# EAGLE library part 74LCX16245MTD (library SamacSys_Parts)
16-Bit Bidirectional Transceiver Source: Datasheet
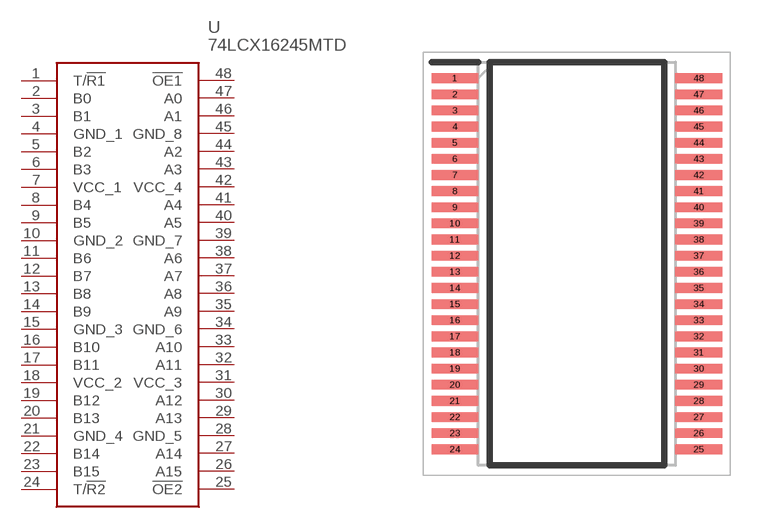
[diagram p106: symbol with the pads of SOP50P810X120-48N; footprint SOP50P810X120-48N]

Designator prefix U

## 74LCX16245MTD (DESCRIPTION: 16-Bit Bidirectional Transceiver; HEIGHT: 1.2mm; MANUFACTURER_NAME: onsemi; MANUFACTURER_PART_NUMBER: 74LCX16245MTD; MOUSER_PART_NUMBER: 512-74LCX16245MTD; MOUSER_PRICE-STOCK: https://www.mouser.co.uk/ProductDetail/ON-Semiconductor-Fairchild/74LCX16245MTD?qs=7%252BiOCl%252BAcw6KJqfdWI%2Fltg%3D%3D)  [SOP50P810X120-48N]
1  T/!R1
2  B0
3  B1
4  GND_1
5  B2
6  B3
7  VCC_1
8  B4
9  B5
10  GND_2
11  B6
12  B7
13  B8
14  B9
15  GND_3
16  B10
17  B11
18  VCC_2
19  B12
20  B13
21  GND_4
22  B14
23  B15
24  T/!R2
25  !OE2
26  A15
27  A14
28  GND_5
29  A13
30  A12
31  VCC_3
32  A11
33  A10
34  GND_6
35  A9
36  A8
37  A7
38  A6
39  GND_7
40  A5
41  A4
42  VCC_4
43  A3
44  A2
45  GND_8
46  A1
47  A0
48  !OE1

## Footprint SOP50P810X120-48N (pad centres in mm)
MTD48 (MO-153)
smd 1.45 x 0.3: 1 -3.775,5.75; 2 -3.775,5.25; 3 -3.775,4.75; 4 -3.775,4.25; 5 -3.775,3.75; 6 -3.775,3.25; 7 -3.775,2.75; 8 -3.775,2.25; 9 -3.775,1.75; 10 -3.775,1.25; 11 -3.775,0.75; 12 -3.775,0.25; 13 -3.775,-0.25; 14 -3.775,-0.75; 15 -3.775,-1.25; 16 -3.775,-1.75; 17 -3.775,-2.25; 18 -3.775,-2.75; 19 -3.775,-3.25; 20 -3.775,-3.75; 21 -3.775,-4.25; 22 -3.775,-4.75; 23 -3.775,-5.25; 24 -3.775,-5.75; 25 3.775,-5.75; 26 3.775,-5.25; 27 3.775,-4.75; 28 3.775,-4.25; 29 3.775,-3.75; 30 3.775,-3.25; 31 3.775,-2.75; 32 3.775,-2.25; 33 3.775,-1.75; 34 3.775,-1.25; 35 3.775,-0.75; 36 3.775,-0.25; 37 3.775,0.25; 38 3.775,0.75; 39 3.775,1.25; 40 3.775,1.75; 41 3.775,2.25; 42 3.775,2.75; 43 3.775,3.25; 44 3.775,3.75; 45 3.775,4.25; 46 3.775,4.75; 47 3.775,5.25; 48 3.775,5.75